# Altium schematic symbol library Regulator_Switching.SchLib: 1 symbol
Pins are listed as number, name and electrical type; pins without a type are passive.

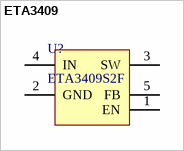
[diagram p0: symbol ETA3409]

## ETA3409
designator U?, comment ETA3409S2F
3A, Step Down DC-DC Converter, 2.4-7.3V Input Voltage
footprint SOT-23-5
pins: 1 EN, 2 GND, 3 SW, 4 IN, 5 FB